# EAGLE library part M06 (library work)
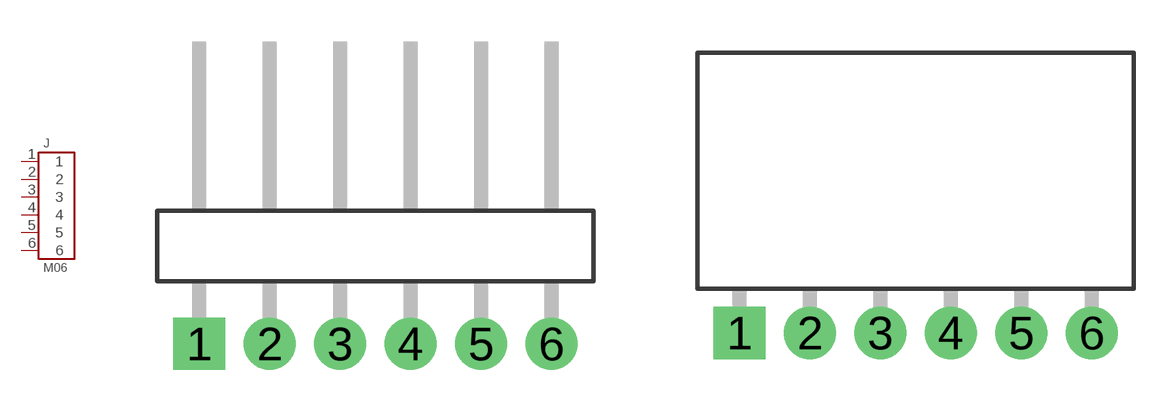
[diagram p94: symbol with the pads of M06_H; footprints M06_H, M06_FEMALE_H]

Designator prefix J

## M06-HORIZONTAL  [M06_H]
1  1
2  2
3  3
4  4
5  5
6  6

## M06-F_HORIZONTAL  [M06_FEMALE_H]
Pads as for M06_H

## M06  [M06]
Pads as for M06_H

## M06-FPC  [10051922-1210ELF]
Pads as for M06_H

## Footprint M06_H (pad centres in mm)
drill 1.016 pad 1.88 square: 1 -6.35,0
drill 1.016 pad 1.88: 2 -3.81,0; 3 -1.27,0; 4 1.27,0; 5 3.81,0; 6 6.35,0

## Footprint M06_FEMALE_H (pad centres in mm)
drill 1.016 pad 1.88 square: 1 -6.35,0
drill 1.016 pad 1.88: 2 -3.81,0; 3 -1.27,0; 4 1.27,0; 5 3.81,0; 6 6.35,0

## Footprint M06 (pad centres in mm)
drill 1.016 pad 1.676 square: 1 -6.35,0
drill 1.016 pad 1.676: 2 -3.81,0; 3 -1.27,0; 4 1.27,0; 5 3.81,0; 6 6.35,0

## Footprint 10051922-1210ELF (pad centres in mm)
smd 0.3 x 1: 1 -1.25,0.15; 2 -0.75,0.15; 3 -0.25,0.15; 4 0.25,0.15; 5 0.75,0.15; 6 1.25,0.15
smd 0.5 x 1: P$1 -2.04,-2.65; P$2 2.04,-2.65